# Altium footprint library MicroUSBB.PcbLib: 1 footprints
Each footprint in its own frame and in the unit in brackets; x right, y up, seen from the top. Pads: shape width x height; smd on the part's side, far side on the other; paste and mask are expansions set on the pad; w line width, h text height; cw(c..) or ccw(c..) is an arc to the next point about the centre after c.
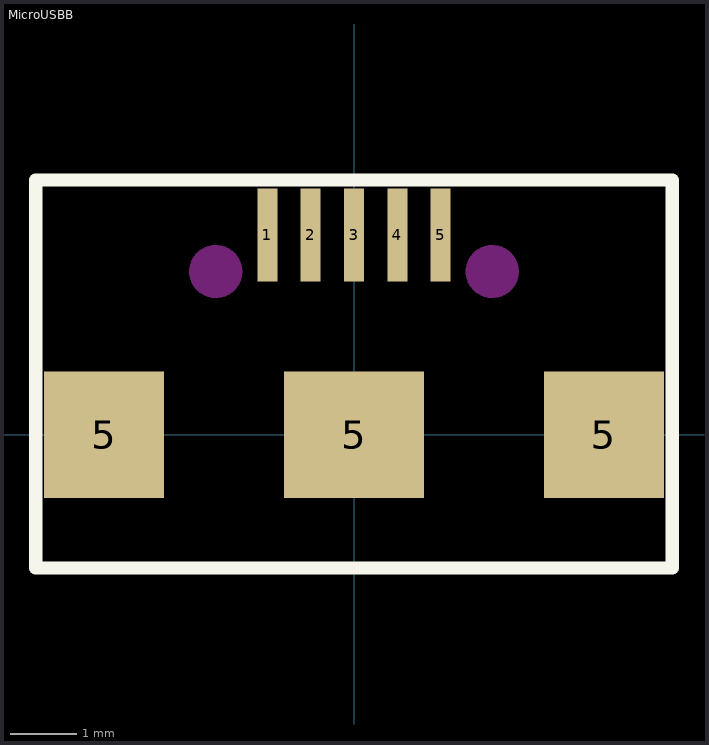
[diagram p0: the footprint, top view; thin cyan lines are the x and y axes]

## MicroUSBB [mm] "124018792112A"
pads (8):
  rect 0.3x1.4 smd mask+0.015: 1(-1.3,3) 2(-0.65,3) 3(0,3) 4(0.65,3) 5(1.3,3)
  rect 1.8x1.9 smd mask+0.015: 5(-3.75,0) 5(3.75,0)
  rect 2.1x1.9 smd mask+0.015: 5(0,0)
Top Overlay:
  lines w0.2: -4.775,-2 -4.775,3.825 4.775,3.825 4.775,-2 -4.775,-2
Keep-Out Layer:
  board cut-out: -2.425,2.45 -2.425,2.38 -2.372,2.252 -2.273,2.153 -2.145,2.1 -2.075,2.1 -2.005,2.1 -1.877,2.153 -1.778,2.252 -1.725,2.38 -1.725,2.45 -1.725,2.52 -1.778,2.648 -1.877,2.747 -2.005,2.8 -2.075,2.8 -2.145,2.8 -2.273,2.747 -2.372,2.648 -2.425,2.52
  board cut-out: 1.725,2.45 1.725,2.38 1.778,2.252 1.877,2.153 2.005,2.1 2.075,2.1 2.145,2.1 2.273,2.153 2.372,2.252 2.425,2.38 2.425,2.45 2.425,2.52 2.372,2.648 2.273,2.747 2.145,2.8 2.075,2.8 2.005,2.8 1.877,2.747 1.778,2.648 1.725,2.52
Keep-Out Layer:
  circle w0.1: c-2.075,2.45 r0.35
  circle w0.1: c2.075,2.45 r0.35
Top Assembly:
  lines w0.1: -4.775,-2 -4.775,3.825 4.775,3.825 4.775,-2 -4.775,-2
  text "'.Designator'" at -0.6,1.312 h0.7
3D body "65944.stp": height 2.7, standoff -0.6, extent -4,-2.894 4,3.15